# Altium footprint library EP_euroSUNLOGGER_glonass.PcbLib: 37 footprints (part 2 of 3)
Each footprint in its own frame and in the unit in brackets; x right, y up, seen from the top. Pads: shape width x height; smd on the part's side, far side on the other; paste and mask are expansions set on the pad; w line width, h text height; cw(c..) or ccw(c..) is an arc to the next point about the centre after c.
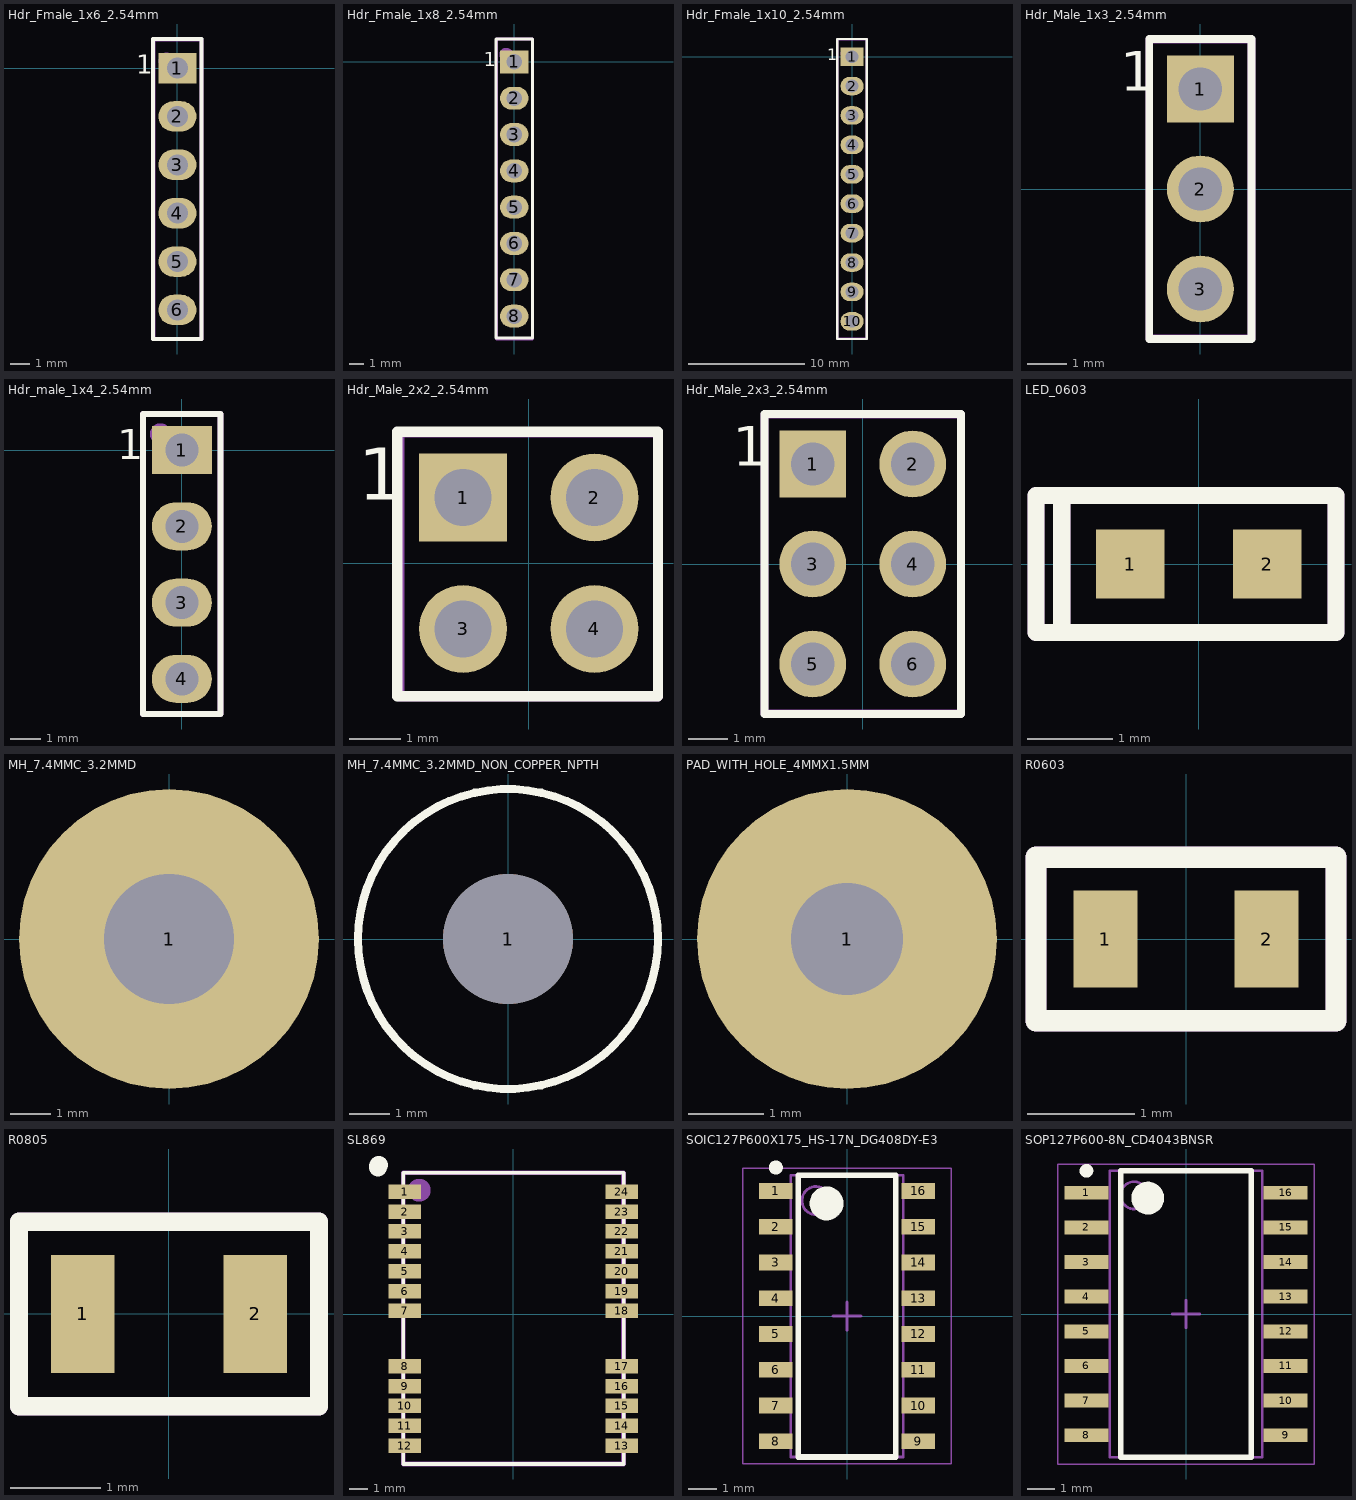
[diagram p1: the footprints below, top view; thin cyan lines are the x and y axes]

## Hdr_Fmale_1x6_2.54mm [mm]
pads (6):
  rect 2x1.6 hole 1.1: 1(0,0)
  oval 2x1.6 hole 1.1: 2(0,-2.54) 3(0,-5.08) 4(0,-7.62) 5(0,-10.16) 6(0,-12.7)
Top Overlay:
  lines w0.2: -1.27,-14.224 1.27,-14.224 1.27,1.524 -1.27,1.524 -1.27,-14.224
  text "1" at -2.15,-0.3 h1
Mechanical 29:
  circle w0.5: c-0.559,0.381 r0.18
  lines w0.2: -1.25,-14.224 1.275,-14.224 1.275,1.5 -1.25,1.5 -1.25,-14.224
  text ".Designator" at 0.508,-11.176 h1.02
3D body "m20-7820646_asm.stp": height 8.51, standoff -2.99, extent -1.25,-14.17 1.25,1.47

## Hdr_Fmale_1x8_2.54mm [mm]
pads (8):
  rect 2x1.6 hole 1.1: 1(0,0)
  oval 2x1.6 hole 1.1: 2(0,-2.54) 3(0,-5.08) 4(0,-7.62) 5(0,-10.16) 6(0,-12.7) 7(0,-15.24) 8(0,-17.78)
Top Overlay:
  lines w0.2: -1.27,-19.304 1.27,-19.304 1.27,1.6 -1.27,1.6 -1.27,-19.304
  text "1" at -2.15,-0.3 h1
Mechanical 29:
  circle w0.5: c-0.559,0.508 r0.229
  lines w0.2: -1.25,-19.38 -1.25,1.6 1.275,1.6 1.275,-19.38 -1.25,-19.38
  text ".Designator" at 0.762,-14.732 h1.5
3D body "m20-7820842_asm.stp": height 8.51, standoff -2.99, extent -1.25,-19.25 1.25,1.47

## Hdr_Fmale_1x10_2.54mm [mm]
pads (10):
  rect 2x1.6 hole 1.1: 1(0,0)
  oval 2x1.6 hole 1.1: 2(0,-2.54) 3(0,-5.08) 4(0,-7.62) 5(0,-10.16) 6(0,-12.7) 7(0,-15.24) 8(0,-17.78) 9(0,-20.32) 10(0,-22.86)
Top Overlay:
  lines w0.2: -1.27,-24.384 -1.27,1.524 1.27,1.524 1.27,-24.384 -1.27,-24.384
  text "1" at -2.15,-0.3 h1
Mechanical 29:
  circle w0.5: c-0.508,0.279 r0.229
  lines w0.2: -1.25,-24.375 -1.25,1.5 1.275,1.5 1.275,-24.375 -1.25,-24.375
  text ".Designator" at 0.575,-16.325 h1.5
3D body "m20-7821046_asm.stp": height 8.51, standoff -2.99, extent -1.25,-24.33 1.25,1.47

## Hdr_Male_1x3_2.54mm [mm]
pads (3):
  rect 1.7x1.7 hole 1.1: 1(0,2.54)
  round 1.7 hole 1.1: 2(0,0) 3(0,-2.54)
Top Overlay:
  lines w0.2: -1.3,-3.81 -1.3,3.81 1.3,3.81 1.3,-3.81 -1.3,-3.81
  text "1" at -2.03,2.5 h1
Mechanical 29:
  circle w0.5: c-0.33,2.9 r0.224
  lines w0.2: -1.3,-3.8 -1.3,3.8 1.3,3.8 1.3,-3.8 -1.3,-3.8
  text ".Designator" at 0.57,-1.9 h1.5
3D body "User Library-1x3 TH Pitch 2_54mm.step": height 9.51, standoff -3.19, extent -1.27,-3.81 1.27,3.81

## Hdr_male_1x4_2.54mm [mm]
pads (4):
  rect 2x1.6 hole 1.1: 1(0,0)
  oval 2x1.6 hole 1.1: 2(0,-2.54) 3(0,-5.08) 4(0,-7.62)
Top Overlay:
  lines w0.2: -1.295,-8.788 -1.295,1.2 1.295,1.2 1.295,-8.788 -1.295,-8.788
  text "1" at -2.15,-0.3 h1
Mechanical 29:
  circle w0.35: c-0.711,0.533 r0.178
  lines w0.2: -1.295,-8.788 -1.295,1.194 1.295,1.194 1.295,-8.788 -1.295,-8.788
  text ".Designator" at 0.5,-6.6 h1.02
3D body "HDR_1x4_White.stp": height 8.39, standoff -3.11, extent -1.175,-8.68 1.235,1.08

## Hdr_Male_2x2_2.54mm [mm]
pads (4):
  rect 1.7x1.7 hole 1.1: 1(-1.27,1.27)
  round 1.7 hole 1.1: 2(1.27,1.27) 3(-1.27,-1.27) 4(1.27,-1.27)
Top Overlay:
  lines w0.2: -2.54,-2.57 -2.54,2.54 2.5,2.54 2.5,-2.57 -2.54,-2.57
  text "1" at -3.3,1.23 h1
Mechanical 29:
  circle w0.5: c-1.6,1.63 r0.224
  lines w0.2: -2.5,-2.57 -2.5,2.53 2.5,2.53 2.5,-2.57 -2.5,-2.57
  text ".Designator" at 1,-1.17 h1.5
3D body "961204-6404-XX.stp": height 8.01, standoff -3.29, extent -2.54,-2.58 2.46,2.5

## Hdr_Male_2x3_2.54mm [mm]
pads (6):
  rect 1.7x1.7 hole 1.1: 1(-1.27,2.54)
  round 1.7 hole 1.1: 2(1.27,2.54) 3(-1.27,0) 4(1.27,0) 5(-1.27,-2.54) 6(1.27,-2.54)
Top Overlay:
  lines w0.2: -2.5,-3.81 -2.5,3.81 2.5,3.81 2.5,-3.81 -2.5,-3.81
  text "1" at -3.3,2.5 h1
Mechanical 29:
  circle w0.5: c-1.6,2.9 r0.224
  lines w0.2: -2.5,-3.8 -2.5,3.8 2.5,3.8 2.5,-3.8 -2.5,-3.8
  text ".Designator" at 0.7,-2 h1.5
3D body "961206-6404-XX.x_t": height 8.01, standoff -3.29, extent -2.5,-3.82 2.5,3.8

## LED_0603 [mm]
pads (2):
  rect 0.8x0.8 smd: 1(-0.8,0) 2(0.8,0)
Top Overlay:
  lines w0.2: -1.6,-0.8 1.6,-0.8 1.6,0.8 -1.6,0.8 ; -1.6,-0.8 -1.6,0.8 ; -1.6,-0.8 -1.9,-0.8 -1.9,0.8 -1.6,0.8
Mechanical 13:
  lines w0.2: -1.6,-0.8 1.6,-0.8 1.6,0.8 -1.6,0.8 ; -1.6,-0.8 -1.6,0.8 ; -1.6,-0.8 -1.9,-0.8 -1.9,0.8 -1.6,0.8
  text ".Designator" at -1.2,-0.2 h0.6
3D body "User Library-LED SMD 0603 super red.step": height 0.65, standoff 0, extent -0.85,-0.4 0.85,0.4
3D body: height 0.66, standoff 0.5, extent -0.2,-0.2 0.2,0.2

## MH_7.4MMC_3.2MMD [mm]
pads (1):
  round 7.4 hole 3.2: 1(0,0)

## MH_7.4MMC_3.2MMD_NON_COPPER_NPTH [mm]
pads (1):
  round 3.2 hole 3.2 unplated: 1(0,0)
Top Overlay:
  circle w0.2: c0,0 r3.7

## PAD_WITH_HOLE_4MMX1.5MM [mm]
pads (1):
  round 4 hole 1.5: 1(0,0)

## R0603 [mm]
pads (2):
  rect 0.6x0.9 smd: 1(-0.75,0) 2(0.75,0)
Top Overlay:
  lines w0.2: -1.397,-0.762 -1.397,0.762 1.397,0.762 1.397,-0.762 -1.397,-0.762
Mechanical 29:
  lines w0.2: -1.397,-0.762 -1.397,0.762 1.397,0.762 1.397,-0.762 -1.397,-0.762
  text ".Designator" at -1.016,-0.254 h0.6
3D body "R0603.step": height 0.81, standoff 0.01, extent -0.8,-0.425 0.8,0.415

## R0805 [mm]
pads (2):
  rect 0.7x1.3 smd: 1(-0.95,0) 2(0.95,0)
Top Overlay:
  lines w0.2: -1.651,-1.016 1.651,-1.016 1.651,1.016 -1.651,1.016 -1.651,-1.016
Mechanical 13:
  lines w0.2: -1.651,-1.016 -1.651,1.016 1.651,1.016 1.651,-1.016 -1.651,-1.016
  text ".Designator" at 0,-0.254 h0.52
3D body "User Library-Chip Resistor2_70N.step": height 0.71, standoff 0.01, extent -1,-0.6 1,0.6

## SL869 [mm]
pads (24):
  rect 1.8x0.8 smd: 1(-6,6.773) 2(-6,5.673) 3(-6,4.573) 4(-6,3.473) 5(-6,2.373) 6(-6,1.273) 7(-6,0.173) 8(-6,-2.882) 9(-6,-3.982) 10(-6,-5.082) 11(-6,-6.182) 12(-6,-7.282) 13(6,-7.282) 14(6,-6.182) 15(6,-5.082) 16(6,-3.982) 17(6,-2.882) 18(6,0.173) 19(6,1.273) 20(6,2.373) 21(6,3.473) 22(6,4.573) 23(6,5.673) 24(6,6.773)
Top Overlay:
  lines w0.2: -6.1,-8.298 -6.1,7.831 ; -6.065,-8.298 6.1,-8.298 6.1,7.831 -6.065,7.831
  lines w1: -7.493,8.128 cw(c-7.313,8.128) -7.436,8.259
Mechanical 1:
  circle w1: c-5.207,6.858 r0.127
  lines w0.254: -6.096,-8.298 -6.096,7.831 6.096,7.831 6.096,-8.298 -6.096,-8.298
  text ".Designator" at 0.127,-0.127 h1.52
3D body "User Library-SL869.step": height 2.41, standoff 0.01, extent -6.104,-8.169 6.096,7.831
3D body: height 2.77, standoff 0.1, extent -4.064,-7.493 4.445,6.604
3D body: height 2.97, standoff 0.1, extent -4.191,1.778 0.762,6.731
3D body: height 3.1, standoff 0.1, extent -4.044,4.481 -2.052,6.477

## SOIC127P600X175_HS-17N_DG408DY-E3 [mm] "SOIC, 16-Leads, Body 9,90x3,90mm, Pitch 1,27mm, Thermal Pad 0,00x0,00mm, IPC Medium Density"
height 1.75
pads (16):
  rect 1.194x0.559 smd: 1(-2.527,4.445) 2(-2.527,3.175) 3(-2.527,1.905) 4(-2.527,0.635) 5(-2.527,-0.635) 6(-2.527,-1.905) 7(-2.527,-3.175) 8(-2.527,-4.445) 9(2.527,-4.445) 10(2.527,-3.175) 11(2.527,-1.905) 12(2.527,-0.635) 13(2.527,0.635) 14(2.527,1.905) 15(2.527,3.175) 16(2.527,4.445)
Top Overlay:
  circle w0.25: c-2.527,5.275 r0.125
  circle w0.6: c-0.725,4 r0.3
  lines w0.2: -1.725,-5 -1.725,5 1.725,5 1.725,-5 -1.725,-5
Mechanical 13:
  circle w0.1: c-1.1,4.1 r0.5
  lines w0.1: -2,-5 -2,5 2,5 2,-5 -2,-5
  text ".Designator" at 1.143,-0.127 h1.52
Mechanical 15:
  lines w0.05: -3.7,-5.25 -3.7,5.25 3.7,5.25 3.7,-5.25 -3.7,-5.25
  lines w0.1: -0.5,0 0.5,0 ; 0,-0.5 0,0.5
3D body "SOIC127P600X175_HS-17N.step": height 1.75, standoff 0, extent -3,-5 3,5
3D body "SOICN16_DG.stp": height 1.76, standoff 0, extent -3.099,-4.991 3.099,4.991

## SOP127P600-8N_CD4043BNSR [mm] "CD4043BNSR"
height 2
pads (16):
  rect 1.6x0.51 smd: 1(-3.65,4.445) 2(-3.65,3.175) 3(-3.65,1.905) 4(-3.65,0.635) 5(-3.65,-0.635) 6(-3.65,-1.905) 7(-3.65,-3.175) 8(-3.65,-4.445) 9(3.65,-4.445) 10(3.65,-3.175) 11(3.65,-1.905) 12(3.65,-0.635) 13(3.65,0.635) 14(3.65,1.905) 15(3.65,3.175) 16(3.65,4.445)
Top Overlay:
  circle w0.25: c-3.65,5.25 r0.125
  circle w0.6: c-1.4,4.25 r0.3
  lines w0.2: -2.4,-5.25 -2.4,5.25 2.4,5.25 2.4,-5.25 -2.4,-5.25
Mechanical 13:
  circle w0.1: c-1.9,4.35 r0.5
  lines w0.1: -2.8,-5.25 -2.8,5.25 2.8,5.25 2.8,-5.25 -2.8,-5.25
  text ".Designator" at 1.016,-1.27 h1.52
Mechanical 15:
  lines w0.05: -4.7,-5.5 -4.7,5.5 4.7,5.5 4.7,-5.5 -4.7,-5.5
  lines w0.1: -0.5,0 0.5,0 ; 0,-0.5 0,0.5
3D body "SOP127P600-8N_CD4043BNSR.step": height 2, standoff 0, extent -3.9,-5.25 3.9,5.25
3D body "NS16.stp": height 2.01, standoff 0, extent -4.102,-5.245 4.102,5.245